# Altium schematic symbol library NX3215SA-32.768K-STD-MUA-9.SchLib: 1 symbol
Pins are listed as number, name and electrical type; pins without a type are passive.

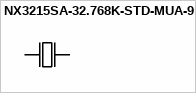
[diagram p0: symbol NX3215SA-32.768K-STD-MUA-9]

## NX3215SA-32.768K-STD-MUA-9
designator ?
CRYSTAL 32.768KHZ 9PF SMD
pins: 1 inp, 2 out